# Altium schematic symbol library Firework Detenator PCB.SCHLIB: 17 symbols
Pins are listed as number, name and electrical type; pins without a type are passive.

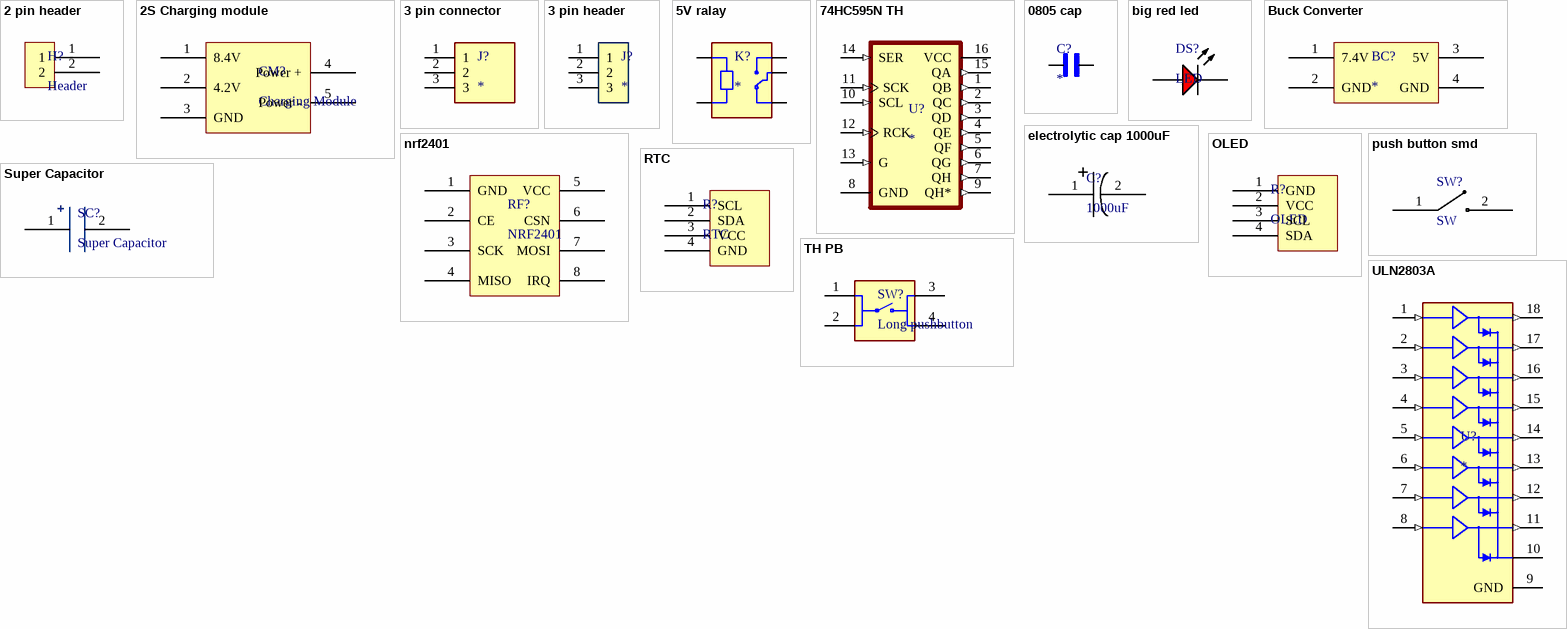
[diagram p0: symbols 2 pin header to ULN2803A]

## 2 pin header
designator H?, comment Header
footprint 2 Pin Header L
pins: 1, 2

## 2S Charging module
designator CM?, comment Charging Module
footprint 2S Charging Module
pins: 1 8.4V, 2 4.2V, 3 GND, 4 Power +, 5 Power -

## 3 pin connector
designator J?
3P,STRAIGHT,SIDE ENTRY,3.5MM; MF: TE Connectivity; MP: 1546551-3; Price: None; SnapEDA_Link: https://www.snapeda.com/parts/1546551-3/TE%20Connectivity%20AMP%20Connectors/view-part/2360652/?ref=snap; Availability: Unavailable; Value: *; Package: None
footprint 3 pin connector
pins: 1, 2, 3

## 3 pin header
designator J?
3P,STRAIGHT,SIDE ENTRY,3.5MM; MF: TE Connectivity; MP: 1546551-3; Price: None; SnapEDA_Link: https://www.snapeda.com/parts/1546551-3/TE%20Connectivity%20AMP%20Connectors/view-part/2360652/?ref=snap; Availability: Unavailable; Value: *; Package: None
footprint 3 pin header
pins: 1, 2, 3

## 5V ralay
designator K?
5V Trigger Relay Module For Arduino And Raspberry Pi 5V Trigger Relay Module For Arduino And Raspberry Pi; MF: Songle Relay; MP: SRD-05VDC-SL-C; Check_prices: https://www.snapeda.com/parts/SRD-05VDC-SL-C/Songle+Relay/view-part/?ref=eda; Value: *; Availability: Not in stock; Price: None; Package: NON STANDARD-5 Songle Relay; SnapEDA_Link: https://www.snapeda.com/parts/SRD-05VDC-SL-C/Songle+Relay/view-part/?ref=snap
footprint RELAY_SRD-05VDC-SL-C
pins: A1, A2, COM, NC, NO

## 74HC595N TH
designator U?
Shift Shift Register 1 Element 8 Bit 16-PDIP; MP: 74HC595N; MF: Texas Instruments; Check_prices: https://www.snapeda.com/parts/74HC595N/Texas+Instruments/view-part/?ref=eda; Value: *; Availability: In Stock; Price: None; Package: SOT38-4-16 Nexperia; SnapEDA_Link: https://www.snapeda.com/parts/74HC595N/Texas+Instruments/view-part/?ref=snap; Purchase-URL: https://pricing.snapeda.com/search/part/74HC595N/?ref=eda
footprint DIP16-2.54-20.32X5.84MM
pins: 1 QB (out), 2 QC (out), 3 QD (out), 4 QE (out), 5 QF (out), 6 QG (out), 7 QH (out), 8 GND (power), 9 QH* (out), 10 SCL (in), 11 SCK (in), 12 RCK (in), 13 G (in), 14 SER (in), 15 QA (out), 16 VCC (power)

## 0805 cap
designator C?
10000 pF Â±5% 16V Ceramic Capacitor X7R 0805 (2012 Metric); MF: AVX; MP: 0805YC103J4T2A; SnapEDA_Link: https://www.snapeda.com/parts/0805YC103J4T2A/AVX/view-part/?ref=snap; Package: 2012 AVX; Value: *; Check_prices: https://www.snapeda.com/parts/0805YC103J4T2A/AVX/view-part/?ref=eda
footprint 0805 CAP
pins: 1, 2

## big red led
designator DS?, comment LED
T-1 3/4 (5 mm) Diffused LED Lamp, 1.9 V, -40 to 100 degC, 2-Pin THD, RoHS, Bulk; Manufacturer: Avago; Forward Current: 25mA; Forward Voltage: 2.4V; Peak Wavelength: 635nm; Shape Type: Circular; High Brightness: No; Main Category: StandardLED; Test Current (It): 10mA; Dominant Wave Length: 626nm; Number of  Elements: 1; Reverse Voltage: 5V; Chip Material: GaP; Product Height (mm): 9.19mm; Lens Type: ColoredDiffused; Viewing Angle: 60deg; Type: Uni-Color; Emitting Color: Red; Luminous Intensity: 5.4mcd; Power Dissipation: 85W; DELETED: Compliant; Product Depth (mm): 6.1mm; Package Description: 2-Pin Through Hole LED, Dia 5.85 mm; Mounting Technology: ThroughHole; Manufacturer URL: http://www.avagotech.com/; Package Type: T-13/4; Operating Temp Range: -40Cto100C; Datasheet URL: http://www.avagotech.com/docs/AV02-1558EN; Mounting: ThroughHole; Lens Dimensions: 5.08x5.08x8.3mm; Package Reference: HLMP-3301; Datasheet Version: 03/2015; Pin Count: 2; Packaging: TapeandReel; Operating Temperature Classification: Industrial; Lum Intensity: 5.4mcd; Rad Hardened: No; Product Length (mm): 6.1mm
footprint big red led (THD, 2-Leads, Body Dia 5.85mm)
pins: 1 A, 2 K

## Buck Converter
designator BC?
footprint Buck Converter
pins: 1 7.4V, 2 GND, 3 5V, 4 GND

## electrolytic cap 1000uF
designator C?, comment 1000uF
JLC: C3359
footprint CAP-SMD_BD10.0-L10.3-W10.3-FD
pins: 1, 2

## nrf2401
designator RF?, comment NRF2401
footprint nrf2401
pins: 1 GND, 2 CE, 3 SCK, 4 MISO, 5 VCC, 6 CSN, 7 MOSI, 8 IRQ

## OLED
designator R?
footprint OLED
pins: 1 GND, 2 VCC, 3 SCL, 4 SDA

## push button smd
designator SW?, comment SW
footprint PushButton SMD
footprint TH PB; pin to pad 2>4
footprint smd push button 2
pins: 1, 2

## RTC
designator R?
footprint RTC
pins: 1 SCL, 2 SDA, 3 VCC, 4 GND

## Super Capacitor
designator SC?
footprint Super Capacitor
pins: 1, 2

## TH PB
designator SW?, comment Long pushbutton
Switch Push Button OFF (ON) SPST Round Button 0.05A 24VDC Momentary Contact PC Pins Thru-Hole; MP: 1825910-6; MF: TE Connectivity; Value: *; Package: None; Check_prices: https://www.snapeda.com/parts/1825910-6/TE+Connectivity+ALCOSWITCH+Switches/view-part/?ref=eda; SnapEDA_Link: https://www.snapeda.com/parts/1825910-6/TE+Connectivity+ALCOSWITCH+Switches/view-part/?ref=snap; Digi-Key_Part_Number: 450-1650-ND; Purchase-URL: https://pricing.snapeda.com/search/part/1825910-6/?ref=eda
footprint TH PB
pins: 1, 2, 3, 4

## ULN2803A
designator U?
MP: ULN2803A; Package: None; Price: None; Value: *; Availability: Unavailable
footprint ULN2803A
pins: 1 IN_1 (in), 2 IN_2 (in), 3 IN_3 (in), 4 IN_4 (in), 5 IN_5 (in), 6 IN_6 (in), 7 IN_7 (in), 8 IN_8 (in), 9 GND (power), 10 COMMON, 11 OUT_8 (out), 12 OUT_7 (out), 13 OUT_6 (out), 14 OUT_5 (out), 15 OUT_4 (out), 16 OUT_3 (out), 17 OUT_2 (out), 18 OUT_1 (out)